# Altium integrated library Infineon_Power_MOSFET.IntLib: 1448 symbols (part 32 of 47)
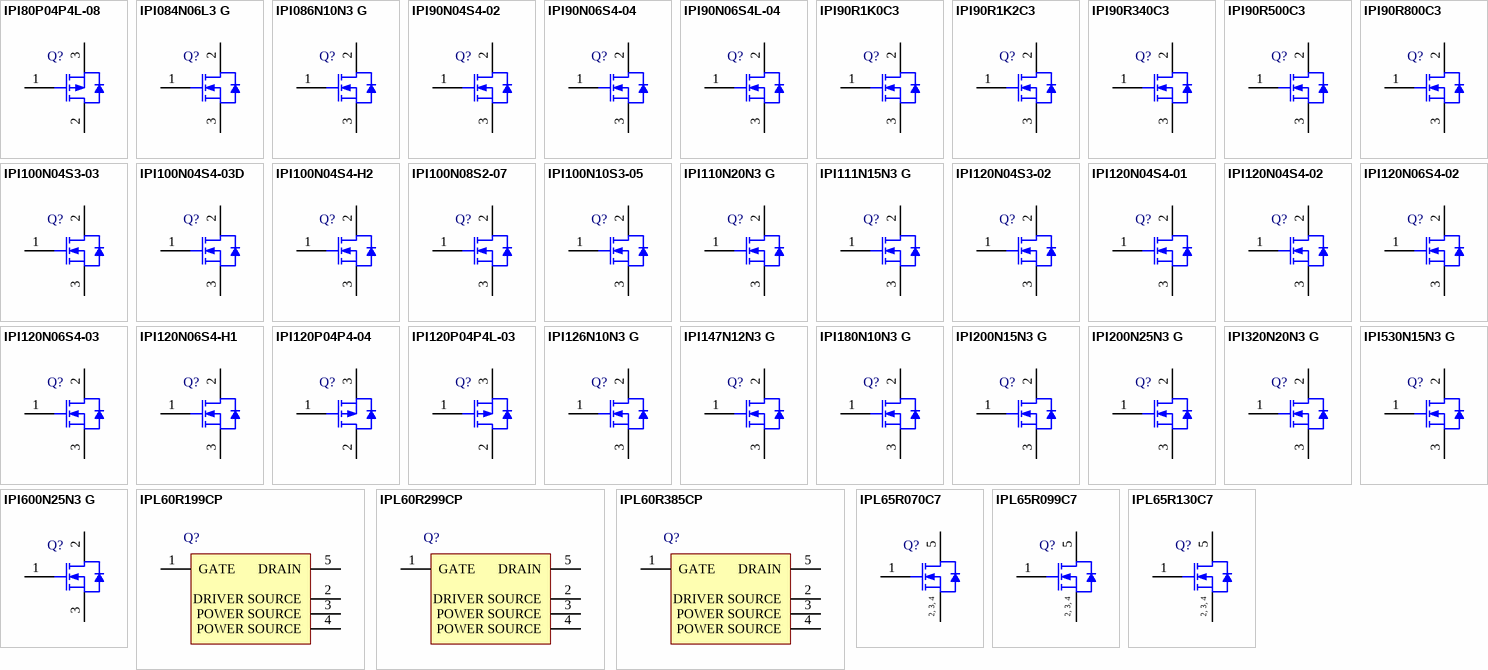
[diagram p68: symbols IPI80P04P4L-08 to IPL65R130C7]

## IPL60R385CP
designator Q?
N-Channel CoolMOS CP Power-Transistor, 600 V VDS, 9 A ID, -40 to 150 degC, PG-VSON-4, Reel, Green; Manufacturer: Infineon; PartNumber: IPL60R385CP; Green: TRUE; ID (max): 9 A; IDpuls (max): 27 A; Polarity: N; Ptot (max): 83 W; QG: 17 nC; RDS (on) (max): 385 mOhm; Rth: 1.5 K/W; RthJA (max): 45 K/W; VDS (max): 600 V; VGS(th) (max): 3.5 V; VGS(th) (min): 2.5 V; DatasheetVersion: Rev. 2.1; PackageVersion: Rev. 01, 04/2010; PackageReference: PG-VSON-4; PackageDescription: 4-Pin Plastic (Green) Small Outline Non-Leaded Package, 8 x 8 mm Body, 2 mm Pitch; Supplier 1: Mouser; Supplier Part Number 1: 726-IPL60R385CP; Supplier 2: Digi-Key; Supplier Part Number 2: IPL60R385CPTR-ND; Supplier 3: Digi-Key; Supplier Part Number 3: IPL60R385CPCT-ND; Supplier 4: Digi-Key; Supplier Part Number 4: IPL60R385CPDKR-ND; Halogen-free: TRUE; Packing: Reel; RthJC (max): 1.5 K/W; Technology: CoolMOS CP; Mounting Technology: Surface Mount; ComponentLink1Description: Manufacturer URL; ComponentLink1URL: http://www.infineon.com/; ComponentLink2Description: Datasheet; ComponentLink2URL: http://www.infineon.com/dgdl/IPL60R385CP_2_1.pdf?folderId=db3a3043163797a6011637d4bae7003b&fileId=db3a3043284aacd801285d06e55327e3; ComponentLink3Description: Package Specification; ComponentLink3URL: http://www.infineon.com/dgdl/IPL60R199CP_2_2.pdf?folderId=db3a3043163797a6011637d4bae7003b&fileId=db3a3043284aacd801284dca135b29ba
footprint INF-PG-VSON-4_A_V (VSON, 4-Leads, Body 8x8mm, Pitch 2mm, Thermal Pad 7.2x4.75mm)
pins: 1 GATE, 2 DRIVER SOURCE, 3 POWER SOURCE, 4 POWER SOURCE, 5 DRAIN

## IPL65R070C7
designator Q?
N-Channel CoolMOS(TM) C7 Power Transistor, 650 V VDS, -40 to 150 degC, PG-VSON-4, Reel, Green; Manufacturer: Infineon; PartNumber: IPL65R070C7; Green: TRUE; Polarity: FALSE; RDS (on) (max): 70 mOhm; VDS (max): 650 V; DatasheetVersion: Rev. 2.0; PackageVersion: Rev. 01, 04/2010; PackageReference: PG-VSON-4_A; PackageDescription: 4-Pin Plastic (Green) Small Outline Non-Leaded Package, 8 x 8 mm Body, 2 mm Pitch; Supplier 1: Mouser; Supplier Part Number 1: N/A; Halogen-free: TRUE; Packing: Reel; Mounting Technology: Surface Mount; ComponentLink1Description: Manufacturer URL; ComponentLink1URL: http://www.infineon.com/; ComponentLink2Description: Datasheet; ComponentLink2URL: http://www.infineon.com/dgdl/DS_IPL65R070C7_2_0.pdf?folderId=db3a3043156fd5730115c736bcc70ff2&fileId=5546d46145da30e80145f091901e6b3d; ComponentLink3Description: Package Specification; ComponentLink3URL: http://www.infineon.com/dgdl/2013_12_05_IDL12G65C5_Target_Datasheet.pdf?folderId=db3a30431d8a6b3c011dbeca72db281a&fileId=db3a304342e8be2c014305242a5d5c28
footprint INF-PG-VSON-4_A_V (VSON, 4-Leads, Body 8x8mm, Pitch 2mm, Thermal Pad 7.2x4.75mm)
pins: 1 G, 2 S, 3 S, 4 S, 5 D
text: 2, 3, 4

## IPL65R099C7
designator Q?
N-Channel CoolMOS(TM) C7 Power Transistor, 650 V VDS, -40 to 150 degC, PG-VSON-4, Reel, Green; Manufacturer: Infineon; PartNumber: IPL65R099C7; Green: TRUE; Polarity: FALSE; RDS (on) (max): 99 mOhm; VDS (max): 650 V; DatasheetVersion: Rev. 2.0; PackageVersion: Rev. 01, 04/2010; PackageReference: PG-VSON-4_A; PackageDescription: 4-Pin Plastic (Green) Small Outline Non-Leaded Package, 8 x 8 mm Body, 2 mm Pitch; Supplier 1: Mouser; Supplier Part Number 1: N/A; Halogen-free: TRUE; Packing: Reel; Mounting Technology: Surface Mount; ComponentLink1Description: Manufacturer URL; ComponentLink1URL: http://www.infineon.com/; ComponentLink2Description: Datasheet; ComponentLink2URL: http://www.infineon.com/dgdl/DS_IPL65R099C7_2_0.pdf?folderId=db3a3043163797a6011637d4bae7003b&fileId=5546d46145da30e80145f09defd56b63; ComponentLink3Description: Package Specification; ComponentLink3URL: http://www.infineon.com/dgdl/2013_12_05_IDL12G65C5_Target_Datasheet.pdf?folderId=db3a30431d8a6b3c011dbeca72db281a&fileId=db3a304342e8be2c014305242a5d5c28
footprint INF-PG-VSON-4_A_V (VSON, 4-Leads, Body 8x8mm, Pitch 2mm, Thermal Pad 7.2x4.75mm)
pins: 1 G, 2 S, 3 S, 4 S, 5 D
text: 2, 3, 4

## IPL65R130C7
designator Q?
N-Channel CoolMOS(TM) C7 Power Transistor, 650 V VDS, -55 to 150 degC, PG-VSON-4, Tube, Green; Manufacturer: Infineon; PartNumber: IPL65R130C7; Green: TRUE; Polarity: FALSE; RDS (on) (max): 130 mOhm; VDS (max): 650 V; DatasheetVersion: Rev. 2.0; PackageVersion: Rev. 01, 04/2010; PackageReference: PG-VSON-4_A; PackageDescription: 4-Pin Plastic (Green) Small Outline Non-Leaded Package, 8 x 8 mm Body, 2 mm Pitch; Supplier 1: Mouser; Supplier Part Number 1: 726-IPL65R130C7; Halogen-free: TRUE; Packing: Tube; Mounting Technology: Surface Mount; ComponentLink1Description: Manufacturer URL; ComponentLink1URL: http://www.infineon.com/; ComponentLink2Description: Datasheet; ComponentLink2URL: http://www.infineon.com/dgdl/DS_IPL65R130C7_2_0.pdf?folderId=db3a3043163797a6011637d4bae7003b&fileId=db3a30433e78ea82013e7977eef9029b; ComponentLink3Description: Package Specification; ComponentLink3URL: http://www.infineon.com/dgdl/2013_12_05_IDL12G65C5_Target_Datasheet.pdf?folderId=db3a30431d8a6b3c011dbeca72db281a&fileId=db3a304342e8be2c014305242a5d5c28
footprint INF-PG-VSON-4_A_V (VSON, 4-Leads, Body 8x8mm, Pitch 2mm, Thermal Pad 7.2x4.75mm)
pins: 1 G, 2 S, 3 S, 4 S, 5 D
text: 2, 3, 4

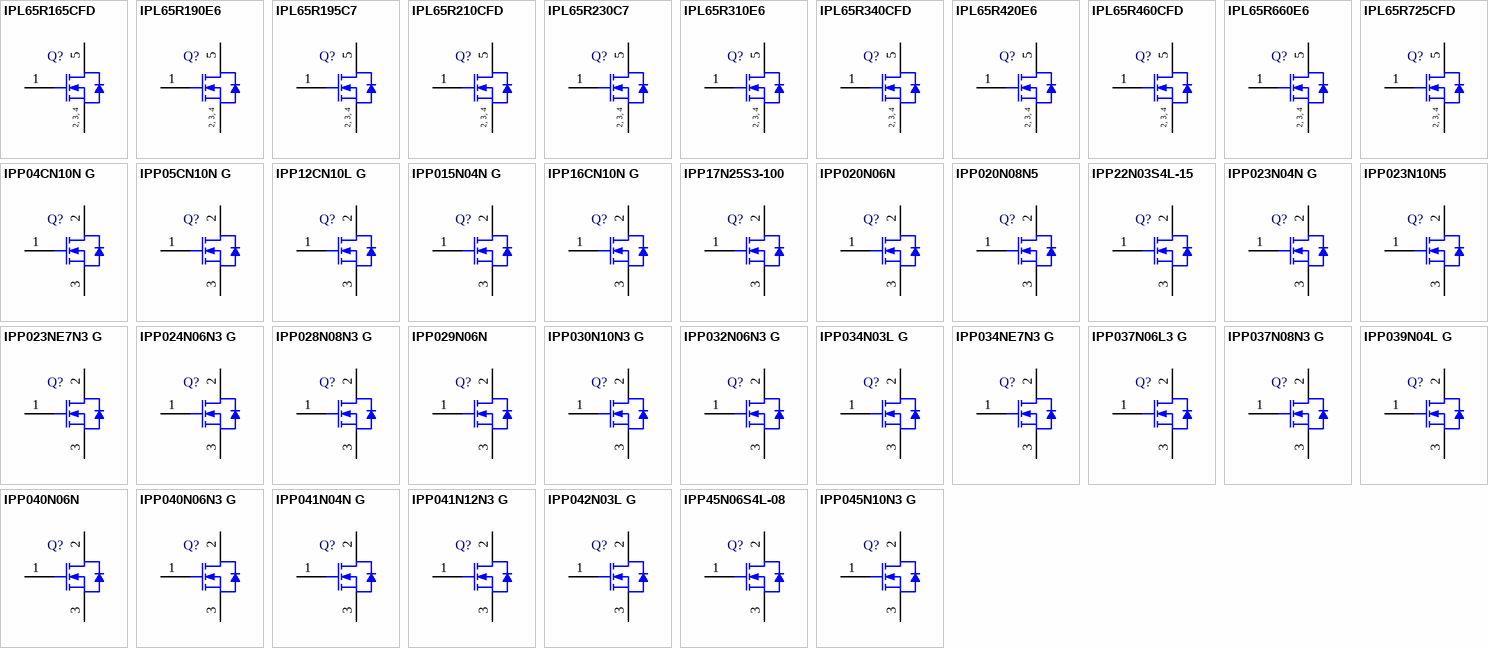
[diagram p25: symbols IPL65R165CFD to IPP045N10N3 G]

## IPL65R165CFD
designator Q?
N-Channel CoolMOS(TM) CFD2 Power Transistor, 650 V VDS, -40 to 150 degC, PG-VSON-4, Reel, Green; Manufacturer: Infineon; PartNumber: IPL65R165CFD; Green: TRUE; Polarity: FALSE; RDS (on) (max): 165 mOhm; VDS (max): 650 V; DatasheetVersion: Rev. 2.0; PackageVersion: Rev. 01, 04/2010; PackageReference: PG-VSON-4_A; PackageDescription: 4-Pin Plastic (Green) Small Outline Non-Leaded Package, 8 x 8 mm Body, 2 mm Pitch; Supplier 1: Mouser; Supplier Part Number 1: N/A; Halogen-free: TRUE; Packing: Reel; Mounting Technology: Surface Mount; ComponentLink1Description: Manufacturer URL; ComponentLink1URL: http://www.infineon.com/; ComponentLink2Description: Datasheet; ComponentLink2URL: http://www.infineon.com/dgdl/DS_IPL65R165CFD_2_0.pdf?folderId=db3a3043156fd5730115c736bcc70ff2&fileId=db3a304344d727a80144dee127e60baf; ComponentLink3Description: Package Specification; ComponentLink3URL: http://www.infineon.com/dgdl/2013_12_05_IDL12G65C5_Target_Datasheet.pdf?folderId=db3a30431d8a6b3c011dbeca72db281a&fileId=db3a304342e8be2c014305242a5d5c28
footprint INF-PG-VSON-4_A_V (VSON, 4-Leads, Body 8x8mm, Pitch 2mm, Thermal Pad 7.2x4.75mm)
pins: 1 G, 2 S, 3 S, 4 S, 5 D
text: 2, 3, 4

## IPL65R190E6
designator Q?
N-Channel CoolMOS(TM) E6 Power Transistor, 650 V VDS, -40 to 150 degC, PG-VSON-4, Reel, Green; Manufacturer: Infineon; PartNumber: IPL65R190E6; Green: TRUE; Polarity: FALSE; RDS (on) (max): 190 mOhm; VDS (max): 650 V; DatasheetVersion: Rev. 2.0; PackageVersion: Rev. 01, 04/2010; PackageReference: PG-VSON-4_A; PackageDescription: 4-Pin Plastic (Green) Small Outline Non-Leaded Package, 8 x 8 mm Body, 2 mm Pitch; Halogen-free: TRUE; Packing: Reel; Mounting Technology: Surface Mount; ComponentLink1Description: Manufacturer URL; ComponentLink1URL: http://www.infineon.com/; ComponentLink2Description: Datasheet; ComponentLink2URL: http://www.infineon.com/dgdl/DS_IPL65R190E6_2_0.pdf?folderId=db3a3043156fd5730115c736bcc70ff2&fileId=db3a304344d727a80144df7870ce0c0c; ComponentLink3Description: Package Specification; ComponentLink3URL: http://www.infineon.com/dgdl/2013_12_05_IDL12G65C5_Target_Datasheet.pdf?folderId=db3a30431d8a6b3c011dbeca72db281a&fileId=db3a304342e8be2c014305242a5d5c28
footprint INF-PG-VSON-4_A_V (VSON, 4-Leads, Body 8x8mm, Pitch 2mm, Thermal Pad 7.2x4.75mm)
pins: 1 G, 2 S, 3 S, 4 S, 5 D
text: 2, 3, 4

## IPL65R195C7
designator Q?
N-Channel CoolMOS(TM) C7 Power Transistor, 650 V VDS, -40 to 150 degC, PG-VSON-4, Reel, Green; Manufacturer: Infineon; PartNumber: IPL65R195C7; Green: TRUE; Polarity: FALSE; RDS (on) (max): 195 mOhm; VDS (max): 650 V; DatasheetVersion: Rev. 2.0; PackageVersion: Rev. 01, 04/2010; PackageReference: PG-VSON-4_A; PackageDescription: 4-Pin Plastic (Green) Small Outline Non-Leaded Package, 8 x 8 mm Body, 2 mm Pitch; Supplier 1: Mouser; Supplier Part Number 1: N/A; Halogen-free: TRUE; Packing: Reel; Mounting Technology: Surface Mount; ComponentLink1Description: Manufacturer URL; ComponentLink1URL: http://www.infineon.com/; ComponentLink2Description: Datasheet; ComponentLink2URL: http://www.infineon.com/dgdl/DS_IPL65R195C7_2_0.pdf?folderId=db3a3043156fd5730115c736bcc70ff2&fileId=5546d46145da30e80145f07420a26b18; ComponentLink3Description: Package Specification; ComponentLink3URL: http://www.infineon.com/dgdl/2013_12_05_IDL12G65C5_Target_Datasheet.pdf?folderId=db3a30431d8a6b3c011dbeca72db281a&fileId=db3a304342e8be2c014305242a5d5c28
footprint INF-PG-VSON-4_A_V (VSON, 4-Leads, Body 8x8mm, Pitch 2mm, Thermal Pad 7.2x4.75mm)
pins: 1 G, 2 S, 3 S, 4 S, 5 D
text: 2, 3, 4

## IPL65R210CFD
designator Q?
N-Channel CoolMOS(TM) CFD2 Power Transistor, 650 V VDS, -40 to 150 degC, PG-VSON-4, Reel, Green; Manufacturer: Infineon; PartNumber: IPL65R210CFD; Green: TRUE; Polarity: FALSE; RDS (on) (max): 210 mOhm; VDS (max): 650 V; DatasheetVersion: Rev. 2.0; PackageVersion: Rev. 01, 04/2010; PackageReference: PG-VSON-4_A; PackageDescription: 4-Pin Plastic (Green) Small Outline Non-Leaded Package, 8 x 8 mm Body, 2 mm Pitch; Supplier 1: Mouser; Supplier Part Number 1: N/A; Halogen-free: TRUE; Packing: Reel; Mounting Technology: Surface Mount; ComponentLink1Description: Manufacturer URL; ComponentLink1URL: http://www.infineon.com/; ComponentLink2Description: Datasheet; ComponentLink2URL: http://www.infineon.com/dgdl/DS_IPL65R210CFD_2_0.pdf?folderId=db3a3043156fd5730115c736bcc70ff2&fileId=db3a304344d727a80144e392799a11a4; ComponentLink3Description: Package Specification; ComponentLink3URL: http://www.infineon.com/dgdl/2013_12_05_IDL12G65C5_Target_Datasheet.pdf?folderId=db3a30431d8a6b3c011dbeca72db281a&fileId=db3a304342e8be2c014305242a5d5c28
footprint INF-PG-VSON-4_A_V (VSON, 4-Leads, Body 8x8mm, Pitch 2mm, Thermal Pad 7.2x4.75mm)
pins: 1 G, 2 S, 3 S, 4 S, 5 D
text: 2, 3, 4

## IPL65R230C7
designator Q?
N-Channel CoolMOS(TM) C7 Power Transistor, 650 V VDS, -40 to 150 degC, PG-VSON-4, Reel, Green; Manufacturer: Infineon; PartNumber: IPL65R230C7; Green: TRUE; Polarity: FALSE; RDS (on) (max): 230 mOhm; VDS (max): 650 V; DatasheetVersion: Rev. 2.0; PackageVersion: Rev. 01, 04/2010; PackageReference: PG-VSON-4_A; PackageDescription: 4-Pin Plastic (Green) Small Outline Non-Leaded Package, 8 x 8 mm Body, 2 mm Pitch; Supplier 1: Mouser; Supplier Part Number 1: 726-IPL65R230C7; Halogen-free: TRUE; Packing: Reel; Mounting Technology: Surface Mount; ComponentLink1Description: Manufacturer URL; ComponentLink1URL: http://www.infineon.com/; ComponentLink2Description: Datasheet; ComponentLink2URL: http://www.infineon.com/dgdl/DS_IPL65R230C7_2_0.pdf?folderId=db3a3043163797a6011637d4bae7003b&fileId=db3a30433e78ea82013e798fa6d80332; ComponentLink3Description: Package Specification; ComponentLink3URL: http://www.infineon.com/dgdl/2013_12_05_IDL12G65C5_Target_Datasheet.pdf?folderId=db3a30431d8a6b3c011dbeca72db281a&fileId=db3a304342e8be2c014305242a5d5c28
footprint INF-PG-VSON-4_A_V (VSON, 4-Leads, Body 8x8mm, Pitch 2mm, Thermal Pad 7.2x4.75mm)
pins: 1 G, 2 S, 3 S, 4 S, 5 D
text: 2, 3, 4

## IPL65R310E6
designator Q?
N-Channel CoolMOS(TM) E6 Power Transistor, 650 V VDS, -40 to 150 degC, PG-VSON-4, Reel, Green; Manufacturer: Infineon; PartNumber: IPL65R310E6; Green: TRUE; Polarity: FALSE; RDS (on) (max): 310 mOhm; VDS (max): 650 V; DatasheetVersion: Rev. 2.1; PackageVersion: Rev. 01, 04/2010; PackageReference: PG-VSON-4_A; PackageDescription: 4-Pin Plastic (Green) Small Outline Non-Leaded Package, 8 x 8 mm Body, 2 mm Pitch; Supplier 1: Mouser; Supplier Part Number 1: N/A; Halogen-free: TRUE; Packing: Reel; Mounting Technology: Surface Mount; ComponentLink1Description: Manufacturer URL; ComponentLink1URL: http://www.infineon.com/; ComponentLink2Description: Datasheet; ComponentLink2URL: http://www.infineon.com/dgdl/DS_IPL65R310E6_Final_DS.pdf?folderId=db3a3043156fd5730115c736bcc70ff2&fileId=db3a304344ae06150144b16ec3b200bc; ComponentLink3Description: Package Specification; ComponentLink3URL: http://www.infineon.com/dgdl/2013_12_05_IDL12G65C5_Target_Datasheet.pdf?folderId=db3a30431d8a6b3c011dbeca72db281a&fileId=db3a304342e8be2c014305242a5d5c28
footprint INF-PG-VSON-4_A_V (VSON, 4-Leads, Body 8x8mm, Pitch 2mm, Thermal Pad 7.2x4.75mm)
pins: 1 G, 2 S, 3 S, 4 S, 5 D
text: 2, 3, 4

## IPL65R340CFD
designator Q?
N-Channel CoolMOS(TM) CFD2 Power Transistor, 650 V VDS, -40 to 150 degC, PG-VSON-4, Reel, Green; Manufacturer: Infineon; PartNumber: IPL65R340CFD; Green: TRUE; Polarity: FALSE; RDS (on) (max): 340 mOhm; VDS (max): 650 V; DatasheetVersion: Rev. 2.0; PackageVersion: Rev. 01, 04/2010; PackageReference: PG-VSON-4_A; PackageDescription: 4-Pin Plastic (Green) Small Outline Non-Leaded Package, 8 x 8 mm Body, 2 mm Pitch; Supplier 1: Mouser; Supplier Part Number 1: N/A; Halogen-free: TRUE; Packing: Reel; Mounting Technology: Surface Mount; ComponentLink1Description: Manufacturer URL; ComponentLink1URL: http://www.infineon.com/; ComponentLink2Description: Datasheet; ComponentLink2URL: http://www.infineon.com/dgdl/DS_IPL65R340CFD_2_0.pdf?folderId=db3a3043156fd5730115c736bcc70ff2&fileId=db3a30433f2e70c5013f41d258c14e3d; ComponentLink3Description: Package Specification; ComponentLink3URL: http://www.infineon.com/dgdl/2013_12_05_IDL12G65C5_Target_Datasheet.pdf?folderId=db3a30431d8a6b3c011dbeca72db281a&fileId=db3a304342e8be2c014305242a5d5c28
footprint INF-PG-VSON-4_A_V (VSON, 4-Leads, Body 8x8mm, Pitch 2mm, Thermal Pad 7.2x4.75mm)
pins: 1 G, 2 S, 3 S, 4 S, 5 D
text: 2, 3, 4

## IPL65R420E6
designator Q?
N-Channel CoolMOS(TM) E6 Power Transistor, 650 V VDS, -40 to 150 degC, PG-VSON-4, Reel, Green; Manufacturer: Infineon; PartNumber: IPL65R420E6; Green: TRUE; Polarity: FALSE; RDS (on) (max): 420 mOhm; VDS (max): 650 V; DatasheetVersion: Rev. 2.1; PackageVersion: Rev. 01, 04/2010; PackageReference: PG-VSON-4_A; PackageDescription: 4-Pin Plastic (Green) Small Outline Non-Leaded Package, 8 x 8 mm Body, 2 mm Pitch; Supplier 1: Mouser; Supplier Part Number 1: N/A; Halogen-free: TRUE; Packing: Reel; Mounting Technology: Surface Mount; ComponentLink1Description: Manufacturer URL; ComponentLink1URL: http://www.infineon.com/; ComponentLink2Description: Datasheet; ComponentLink2URL: http://www.infineon.com/dgdl/DS_IPL65R420E6_Final_DS.pdf?folderId=db3a3043156fd5730115c736bcc70ff2&fileId=db3a304344ae06150144b19d39c60132; ComponentLink3Description: Package Specification; ComponentLink3URL: http://www.infineon.com/dgdl/2013_12_05_IDL12G65C5_Target_Datasheet.pdf?folderId=db3a30431d8a6b3c011dbeca72db281a&fileId=db3a304342e8be2c014305242a5d5c28
footprint INF-PG-VSON-4_A_V (VSON, 4-Leads, Body 8x8mm, Pitch 2mm, Thermal Pad 7.2x4.75mm)
pins: 1 G, 2 S, 3 S, 4 S, 5 D
text: 2, 3, 4

## IPL65R460CFD
designator Q?
N-Channel CoolMOS(TM) CFD2 Power Transistor, 650 V VDS, -40 to 150 degC, PG-VSON-4, Reel, Green; Manufacturer: Infineon; PartNumber: IPL65R460CFD; Green: TRUE; Polarity: FALSE; RDS (on) (max): 460 mOhm; VDS (max): 650 V; DatasheetVersion: Rev. 2.0; PackageVersion: Rev. 01, 04/2010; PackageReference: PG-VSON-4_A; PackageDescription: 4-Pin Plastic (Green) Small Outline Non-Leaded Package, 8 x 8 mm Body, 2 mm Pitch; Supplier 1: Mouser; Supplier Part Number 1: N/A; Halogen-free: TRUE; Packing: Reel; Mounting Technology: Surface Mount; ComponentLink1Description: Manufacturer URL; ComponentLink1URL: http://www.infineon.com/; ComponentLink2Description: Datasheet; ComponentLink2URL: http://www.infineon.com/dgdl/DS_IPL65R460CFD_2_0.pdf?folderId=db3a3043156fd5730115c736bcc70ff2&fileId=db3a30433f2e70c5013f41ed465d4e69; ComponentLink3Description: Package Specification; ComponentLink3URL: http://www.infineon.com/dgdl/2013_12_05_IDL12G65C5_Target_Datasheet.pdf?folderId=db3a30431d8a6b3c011dbeca72db281a&fileId=db3a304342e8be2c014305242a5d5c28
footprint INF-PG-VSON-4_A_V (VSON, 4-Leads, Body 8x8mm, Pitch 2mm, Thermal Pad 7.2x4.75mm)
pins: 1 G, 2 S, 3 S, 4 S, 5 D
text: 2, 3, 4

## IPL65R660E6
designator Q?
N-Channel CoolMOS(TM) E6 Power Transistor, 650 V VDS, -40 to 150 degC, PG-VSON-4, Reel, Green; Manufacturer: Infineon; PartNumber: IPL65R660E6; Green: TRUE; Polarity: FALSE; RDS (on) (max): 660 mOhm; VDS (max): 650 V; DatasheetVersion: Rev. 2.1; PackageVersion: Rev. 01, 04/2010; PackageReference: PG-VSON-4_A; PackageDescription: 4-Pin Plastic (Green) Small Outline Non-Leaded Package, 8 x 8 mm Body, 2 mm Pitch; Supplier 1: Mouser; Supplier Part Number 1: N/A; Halogen-free: TRUE; Packing: Reel; Mounting Technology: Surface Mount; ComponentLink1Description: Manufacturer URL; ComponentLink1URL: http://www.infineon.com/; ComponentLink2Description: Datasheet; ComponentLink2URL: http://www.infineon.com/dgdl/DS_IPL65R660E6_Final_DS.pdf?folderId=db3a3043156fd5730115c736bcc70ff2&fileId=db3a304344ae06150144b1d4c6280166; ComponentLink3Description: Package Specification; ComponentLink3URL: http://www.infineon.com/dgdl/2013_12_05_IDL12G65C5_Target_Datasheet.pdf?folderId=db3a30431d8a6b3c011dbeca72db281a&fileId=db3a304342e8be2c014305242a5d5c28
footprint INF-PG-VSON-4_A_V (VSON, 4-Leads, Body 8x8mm, Pitch 2mm, Thermal Pad 7.2x4.75mm)
pins: 1 G, 2 S, 3 S, 4 S, 5 D
text: 2, 3, 4

## IPL65R725CFD
designator Q?
N-Channel CoolMOS(TM) CFD2 Power Transistor, 650 V VDS, -40 to 150 degC, PG-VSON-4, Reel, Green; Manufacturer: Infineon; PartNumber: IPL65R725CFD; Green: TRUE; Polarity: FALSE; RDS (on) (max): 725 mOhm; VDS (max): 650 V; DatasheetVersion: Rev. 2.0; PackageVersion: Rev. 01, 04/2010; PackageReference: PG-VSON-4_A; PackageDescription: 4-Pin Plastic (Green) Small Outline Non-Leaded Package, 8 x 8 mm Body, 2 mm Pitch; Supplier 1: Mouser; Supplier Part Number 1: N/A; Halogen-free: TRUE; Packing: Reel; Mounting Technology: Surface Mount; ComponentLink1Description: Manufacturer URL; ComponentLink1URL: http://www.infineon.com/; ComponentLink2Description: Datasheet; ComponentLink2URL: http://www.infineon.com/dgdl/DS_IPL65R725CFD_2_0.pdf?folderId=db3a3043156fd5730115c736bcc70ff2&fileId=db3a30433f2e70c5013f4253f8dc4ec9; ComponentLink3Description: Package Specification; ComponentLink3URL: http://www.infineon.com/dgdl/2013_12_05_IDL12G65C5_Target_Datasheet.pdf?folderId=db3a30431d8a6b3c011dbeca72db281a&fileId=db3a304342e8be2c014305242a5d5c28
footprint INF-PG-VSON-4_A_V (VSON, 4-Leads, Body 8x8mm, Pitch 2mm, Thermal Pad 7.2x4.75mm)
pins: 1 G, 2 S, 3 S, 4 S, 5 D
text: 2, 3, 4

## IPP04CN10N G
designator Q?
N-Channel OptiMOS 2 Power-Transistor, 100 V VDS, 100 A ID, -55 to 175 degC, PG-TO220-3-1, Tube, Green; Manufacturer: Infineon; PartNumber: IPP04CN10N G; Green: TRUE; ID (max): 100 A; IDpuls (max): 400 A; Polarity: N; Ptot (max): 300 W; QG: 158 nC; RDS (on) (max): 3.9 mOhm; Rth: 0.5 K/W; RthJA (max): 62 K/W; VDS (max): 100 V; VGS(th) (max): 4 V; VGS(th) (min): 2 V; DatasheetVersion: Rev. 1.4; PackageVersion: Rev. 05, 08/2007; PackageReference: PG-TO220-3-1; PackageDescription: 3-Pin Plastic (Green) Transistor Single Outline Package, 10.03 x 8.98 mm Body, 2.54 mm Pitch; Supplier 1: Newark; Supplier Part Number 1: 60R2733; Supplier 2: Farnell; Supplier Part Number 2: 1775622; Halogen-free: TRUE; Packing: Tube; RthJC (max): 0.5 K/W; Mounting Technology: Through Hole; ComponentLink1Description: Manufacturer URL; ComponentLink1URL: http://www.infineon.com/; ComponentLink2Description: Datasheet; ComponentLink2URL: http://www.infineon.com/dgdl/IPP04CN10N_Rev1.4.pdf?folderId=db3a304313b8b5a60113cee8763b02d7&fileId=db3a30432313ff5e012393a80d1d03d8; ComponentLink3Description: Package Specification; ComponentLink3URL: http://www.infineon.com/dgdl/IPP028N08N3_Rev1%5B1%5D.0.pdf?folderId=db3a304313b8b5a60113cee8763b02d7&fileId=db3a30432313ff5e0123a3c08e7326b5
footprint INF-PG-TO220-3-1_A_V (FM, 3-Leads, Body 10.03x8.98mm, Pitch 2.54mm)
pins: 1 GATE, 2 DRAIN, 3 SOURCE

## IPP05CN10N G
designator Q?
N-Channel OptiMOS 2 Power-Transistor, 100 V VDS, 100 A ID, -55 to 175 degC, PG-TO220-3-1, Tube, Green; Manufacturer: Infineon; PartNumber: IPP05CN10N G; Green: TRUE; ID (max): 100 A; IDpuls (max): 400 A; Polarity: N; Ptot (max): 300 W; QG: 136 nC; RDS (on) (max): 5.4 mOhm; Rth: 0.5 K/W; RthJA (max): 62 K/W; VDS (max): 100 V; VGS(th) (max): 4 V; VGS(th) (min): 2 V; DatasheetVersion: Rev. 1.2; PackageVersion: Rev. 05, 08/2007; PackageReference: PG-TO220-3-1; PackageDescription: 3-Pin Plastic (Green) Transistor Single Outline Package, 10.03 x 8.98 mm Body, 2.54 mm Pitch; Supplier 1: Digi-Key; Supplier Part Number 1: IPP05CN10NGIN-ND; Halogen-free: TRUE; Packing: Tube; RthJC (max): 0.5 K/W; Mounting Technology: Through Hole; ComponentLink1Description: Manufacturer URL; ComponentLink1URL: http://www.infineon.com/; ComponentLink2Description: Datasheet; ComponentLink2URL: http://www.infineon.com/dgdl/IPP05CN10N_Rev1.2.pdf?folderId=db3a304313b8b5a60113cee8763b02d7&fileId=db3a30432313ff5e012393ad8dec03e7; ComponentLink3Description: Package Specification; ComponentLink3URL: http://www.infineon.com/dgdl/IPP028N08N3_Rev1%5B1%5D.0.pdf?folderId=db3a304313b8b5a60113cee8763b02d7&fileId=db3a30432313ff5e0123a3c08e7326b5
footprint INF-PG-TO220-3-1_A_V (FM, 3-Leads, Body 10.03x8.98mm, Pitch 2.54mm)
pins: 1 GATE, 2 DRAIN, 3 SOURCE

## IPP12CN10L G
designator Q?
N-Channel OptiMOS 2 Power-Transistor, 100 V VDS, 69 A ID, -55 to 175 degC, PG-TO220-3-1, Tube, Green; Manufacturer: Infineon; PartNumber: IPP12CN10L G; Green: TRUE; ID (max): 69 A; IDpuls (max): 276 A; Polarity: N; Ptot (max): 125 W; QG: 58 nC; RDS (on) (max): 12 mOhm; RDS (on) (max) (@4.5V): 15.8 mOhm; Rth: 1.2 K/W; RthJA (max): 62 K/W; RthJC (max): 1.2 K/W; VDS (max): 100 V; VGS(th) (max): 2.4 V; VGS(th) (min): 1.2 V; DatasheetVersion: Rev. 1.03; PackageVersion: Rev. 05, 08/2007; PackageReference: PG-TO220-3-1; PackageDescription: 3-Pin Plastic (Green) Transistor Single Outline Package, 10.03 x 8.98 mm Body, 2.54 mm Pitch; Supplier 1: Mouser; Supplier Part Number 1: 726-IPP12CN10LG; Supplier 2: Digi-Key; Supplier Part Number 2: IPP12CN10L G-ND; Halogen-free: TRUE; Packing: Tube; Mounting Technology: Through Hole; ComponentLink1Description: Manufacturer URL; ComponentLink1URL: http://www.infineon.com/; ComponentLink2Description: Datasheet; ComponentLink2URL: http://www.infineon.com/dgdl/IPP12CN10L_Rev13.pdf?folderId=db3a304313b8b5a60113cee8763b02d7&fileId=db3a30431b0626df011b2615b04b6fd1; ComponentLink3Description: Package Specification; ComponentLink3URL: http://www.infineon.com/dgdl/IPP028N08N3_Rev1%5B1%5D.0.pdf?folderId=db3a304313b8b5a60113cee8763b02d7&fileId=db3a30432313ff5e0123a3c08e7326b5
footprint INF-PG-TO220-3-1_A_V (FM, 3-Leads, Body 10.03x8.98mm, Pitch 2.54mm)
pins: 1 GATE, 2 DRAIN, 3 SOURCE

## IPP015N04N G
designator Q?
N-Channel OptiMOS 3 Power-Transistor, 40 V VDS, 120 A ID, -55 to 175 degC, PG-TO220-3-1, Tube, Green; Manufacturer: Infineon; PartNumber: IPP015N04N G; Green: TRUE; ID (max): 120 A; IDpuls (max): 400 A; Polarity: N; Ptot (max): 250 W; QG: 188 nC; RDS (on) (max): 1.5 mOhm; Rth: 0.6 K/W; RthJA (max): 62 K/W; VDS (max): 40 V; VGS(th) (max): 4 V; VGS(th) (min): 2 V; DatasheetVersion: Rev. 2.2; PackageVersion: Rev. 05, 08/2007; PackageReference: PG-TO220-3-1; PackageDescription: 3-Pin Plastic (Green) Transistor Single Outline Package, 10.03 x 8.98 mm Body, 2.54 mm Pitch; Supplier 1: Mouser; Supplier Part Number 1: 726-IPP015N04NG; Supplier 2: Newark; Supplier Part Number 2: 60R2726; Supplier 3: Farnell; Supplier Part Number 3: 1775611; Supplier 4: Digi-Key; Supplier Part Number 4: IPP015N04N G-ND; Halogen-free: TRUE; Packing: Tube; RthJC (max): 0.6 K/W; Mounting Technology: Through Hole; ComponentLink1Description: Manufacturer URL; ComponentLink1URL: http://www.infineon.com/; ComponentLink2Description: Datasheet; ComponentLink2URL: http://www.infineon.com/dgdl/IPB015N04N_rev2.2.pdf?folderId=db3a304313b8b5a60113cee8763b02d7&fileId=db3a30432313ff5e01239efadeca7112; ComponentLink3Description: Package Specification; ComponentLink3URL: http://www.infineon.com/dgdl/IPP028N08N3_Rev1%5B1%5D.0.pdf?folderId=db3a304313b8b5a60113cee8763b02d7&fileId=db3a30432313ff5e0123a3c08e7326b5
footprint INF-PG-TO220-3-1_A_V (FM, 3-Leads, Body 10.03x8.98mm, Pitch 2.54mm)
pins: 1 GATE, 2 DRAIN, 3 SOURCE

## IPP16CN10N G
designator Q?
N-Channel OptiMOS 2 Power-Transistor, 100 V VDS, 53 A ID, -55 to 175 degC, PG-TO220-3-1, Tube, Green; Manufacturer: Infineon; PartNumber: IPP16CN10N G; Green: TRUE; ID (max): 53 A; IDpuls (max): 212 A; Polarity: N; Ptot (max): 100 W; QG: 36 nC; RDS (on) (max): 16.5 mOhm; Rth: 1.5 K/W; RthJA (max): 62 K/W; VDS (max): 100 V; VGS(th) (max): 4 V; VGS(th) (min): 2 V; DatasheetVersion: Rev. 1.06; PackageVersion: Rev. 05, 08/2007; PackageReference: PG-TO220-3-1; PackageDescription: 3-Pin Plastic (Green) Transistor Single Outline Package, 10.03 x 8.98 mm Body, 2.54 mm Pitch; Supplier 1: Digi-Key; Supplier Part Number 1: IPP16CN10NGIN-ND; Halogen-free: TRUE; Packing: Tube; RthJC (max): 1.5 K/W; Mounting Technology: Through Hole; ComponentLink1Description: Manufacturer URL; ComponentLink1URL: http://www.infineon.com/; ComponentLink2Description: Datasheet; ComponentLink2URL: http://www.infineon.com/dgdl/IPP16CN10N_Rev16.pdf?folderId=db3a304313b8b5a60113cee8763b02d7&fileId=db3a30432313ff5e012393cd8f170432; ComponentLink3Description: Package Specification; ComponentLink3URL: http://www.infineon.com/dgdl/IPP028N08N3_Rev1%5B1%5D.0.pdf?folderId=db3a304313b8b5a60113cee8763b02d7&fileId=db3a30432313ff5e0123a3c08e7326b5
footprint INF-PG-TO220-3-1_A_V (FM, 3-Leads, Body 10.03x8.98mm, Pitch 2.54mm)
pins: 1 GATE, 2 DRAIN, 3 SOURCE

## IPP17N25S3-100
designator Q?
OptiMOS-T Power-Transistor, 250 V VDS, 17 A ID, PG-TO220-3-1, Green; Manufacturer: Infineon; PartNumber: IPP17N25S3-100; Green: TRUE; ID (max): 17 A; IDpuls (max): 68 A; Ptot (max): 107 W; QG: 14 nC; RDS (on) (max) (@10V): 100 mOhm; RthJC (max): 1.4 K/W; VDS (max): 250 V; VGS(th) (max): 4 V; VGS(th) (min): 2 V; DatasheetVersion: Rev. 1.0; PackageVersion: Jul-12; PackageReference: PG-TO220-3-1; PackageDescription: 3-Pin Plastic (Green) Transistor Single Outline Package, 10 x 9.25 mm Body, 2.54 mm Pitch; Supplier 1: Mouser; Supplier Part Number 1: N/A; Halogen-free: FALSE; Technology: OptiMOS-T; Mounting Technology: Through Hole; ComponentLink1Description: Manufacturer URL; ComponentLink1URL: http://www.infineon.com/; ComponentLink2Description: Datasheet; ComponentLink2URL: http://www.infineon.com/dgdl/IPP_B17N25S3-100_DS_10.pdf?folderId=db3a30433b92f0e8013b9377b6270147&fileId=db3a30433b92f0e8013b937c398a014b&location=en.Products.Automotive_ICs.Automotive_MOSFETs.Single__N-Channel_250V_MOSFETs.DATASHEET.IPP_B17N25S3-100_DS_10.pdf; ComponentLink3Description: Package Specification; ComponentLink3URL: http://www.infineon.com/dgdl/BTS117_DS_14.pdf?folderId=db3a30431400ef68011421b54e2e0564&fileId=db3a30433a747525013abff8302d549c&location=en.Products.Automotive_ICs.Smart_High-_and_Low-Side_Switches.HITFET___TEMPFET__-_Smart_Low-Side_Switches.DATASHEET.BTS117_DS_14.pdf
footprint INF-PG-TO220-3-1 (FM, 3-Leads, Body 10x4.4mm, Pitch 2.54mm)
pins: 1 GATE, 2 DRAIN, 3 SOURCE

## IPP020N06N
designator Q?
N-Channel OptiMOS Power-Transistor, 60 V VDS, 120 A ID, -55 to 175 degC, PG-TO220-3-1, Tube, Green; Manufacturer: Infineon; PartNumber: IPP020N06N; Green: TRUE; ID (max): 120 A; IDpuls (max): 480 A; Polarity: N; Ptot (max): 214 W; QG: 106 nC; RDS (on) (max): 2 mOhm; Rth: 0.7 K/W; RthJA (max): 62 K/W; VDS (max): 60 V; VGS(th) (max): 3.3 V; VGS(th) (min): 2.1 V; DatasheetVersion: Rev. 2.3; PackageVersion: Rev. 05, 08/2007; PackageReference: PG-TO220-3-1; PackageDescription: 3-Pin Plastic (Green) Transistor Single Outline Package, 10.03 x 8.98 mm Body, 2.54 mm Pitch; Supplier 1: Digi-Key; Supplier Part Number 1: IPP020N06N-ND; Halogen-free: TRUE; Packing: Tube; RthJC (max): 0.7 K/W; Mounting Technology: Through Hole; ComponentLink1Description: Manufacturer URL; ComponentLink1URL: http://www.infineon.com/; ComponentLink2Description: Datasheet; ComponentLink2URL: http://www.infineon.com/dgdl/IPP020N06N_Rev2.3.pdf?folderId=db3a30431ddc9372011ebafa04517f8b&fileId=db3a3043345a30bc013465ce627962f5; ComponentLink3Description: Package Specification; ComponentLink3URL: http://www.infineon.com/dgdl/IPP028N08N3_Rev1%5B1%5D.0.pdf?folderId=db3a304313b8b5a60113cee8763b02d7&fileId=db3a30432313ff5e0123a3c08e7326b5
footprint INF-PG-TO220-3-1_A_V (FM, 3-Leads, Body 10.03x8.98mm, Pitch 2.54mm)
pins: 1 GATE, 2 DRAIN, 3 SOURCE

## IPP020N08N5
designator Q?
N-Channel OptiMOS(TM) 5 Power-Transistor, 80 V VDS, 120 A ID, PG-TO220-3, Tube, Green; Manufacturer: Infineon; PartNumber: IPP020N08N5; Green: TRUE; ID (max): 120 A; IDpuls (max): 480 A; Polarity: N; Ptot (max): 375 W; QG: 178 nC; RDS (on) (max): 2 mOhm; RthJA (max): 62 K/W; RthJC (max): 0.4 K/W; VDS (max): 80 V; VGS(th) (max): 3.8 V; VGS(th) (min): 2.2 V; DatasheetVersion: Rev. 2.1; PackageVersion: Rev. 05, 08/2007; PackageReference: PG-TO220-3-1_A; PackageDescription: 3-Pin Plastic (Green) Transistor Single Outline Package, 10.03 x 8.98 mm Body, 2.54 mm Pitch; Halogen-free: TRUE; Mounting: THT; Packing: Tube; Technology: OptiMOS(TM); Mounting Technology: Through Hole; ComponentLink1Description: Manufacturer URL; ComponentLink1URL: http://www.infineon.com/; ComponentLink2Description: Datasheet; ComponentLink2URL: http://www.infineon.com/dgdl/IPP020N08N5_2_1.pdf?folderId=db3a304313b8b5a60113cee7c66a02d6&fileId=5546d461454603990145ccd88c826204; ComponentLink3Description: Package Specification; ComponentLink3URL: http://www.infineon.com/dgdl/IKP30N65H5_2_1.pdf?folderId=db3a3043156fd5730115f56849b61941&fileId=5546d461464245d30146a51a2ca36d28
footprint INF-PG-TO220-3-1_A_V (FM, 3-Leads, Body 10.03x8.98mm, Pitch 2.54mm)
pins: 1 GATE, 2 DRAIN, 3 SOURCE

## IPP22N03S4L-15
designator Q?
OptiMOS-T2 Power-Transistor, 30 V VDS, 22 A ID, PG-TO220-3-1, Tube, Green; Manufacturer: Infineon; PartNumber: IPP22N03S4L-15; Green: TRUE; ID (max): 22 A; IDpuls (max): 88 A; Ptot (max): 31 W; QG: 11 nC; RDS (on) (max) (@10V): 14.9 mOhm; RDS (on) (max) (@4.5V): 19.8 mOhm; RthJC (max): 4.9 K/W; VDS (max): 30 V; VGS(th) (max): 2.2 V; VGS(th) (min): 1 V; DatasheetVersion: Rev. 2.0; PackageVersion: Jul-12; PackageReference: PG-TO220-3-1; PackageDescription: 3-Pin Plastic (Green) Transistor Single Outline Package, 10 x 9.25 mm Body, 2.54 mm Pitch; Supplier 1: Mouser; Supplier Part Number 1: 726-IPP22N03S4L-15; Supplier 2: Digi-Key; Supplier Part Number 2: IPP22N03S4L-15-ND; Halogen-free: TRUE; Packing: Tube; Technology: OptiMOS-T2; Mounting Technology: Through Hole; ComponentLink1Description: Manufacturer URL; ComponentLink1URL: http://www.infineon.com/; ComponentLink2Description: Datasheet; ComponentLink2URL: http://www.infineon.com/dgdl/IPP_B_I22N03S4L-15_DS_2_0.pdf?folderId=db3a304412b407950112b426f7da3b27&fileId=db3a304412b407950112b426fb903b3b&location=en.Products.Automotive_ICs.Automotive_MOSFETs.Single__N-Channel_30V_MOSFETs.DATASHEET.IPP_B_I22N03S4L-15_DS_2_0.pdf; ComponentLink3Description: Package Specification; ComponentLink3URL: http://www.infineon.com/dgdl/BTS117_DS_14.pdf?folderId=db3a30431400ef68011421b54e2e0564&fileId=db3a30433a747525013abff8302d549c&location=en.Products.Automotive_ICs.Smart_High-_and_Low-Side_Switches.HITFET___TEMPFET__-_Smart_Low-Side_Switches.DATASHEET.BTS117_DS_14.pdf
footprint INF-PG-TO220-3-1 (FM, 3-Leads, Body 10x4.4mm, Pitch 2.54mm)
pins: 1 GATE, 2 DRAIN, 3 SOURCE

## IPP023N04N G
designator Q?
N-Channel OptiMOS 3 Power-Transistor, 40 V VDS, 90 A ID, -55 to 175 degC, PG-TO220-3-1, Tube, Green; Manufacturer: Infineon; PartNumber: IPP023N04N G; Green: TRUE; ID (max): 90 A; IDpuls (max): 400 A; Polarity: N; Ptot (max): 167 W; QG: 90 nC; RDS (on) (max): 2.3 mOhm; Rth: 0.9 K/W; RthJA (max): 62 K/W; VDS (max): 40 V; VGS(th) (max): 4 V; VGS(th) (min): 2 V; DatasheetVersion: Rev. 1.2; PackageVersion: Rev. 05, 08/2007; PackageReference: PG-TO220-3-1; PackageDescription: 3-Pin Plastic (Green) Transistor Single Outline Package, 10.03 x 8.98 mm Body, 2.54 mm Pitch; Supplier 1: Mouser; Supplier Part Number 1: 726-IPP023N04NG; Supplier 2: Newark; Supplier Part Number 2: 60R2727; Supplier 3: Farnell; Supplier Part Number 3: 1775612; Supplier 4: Digi-Key; Supplier Part Number 4: IPP023N04N G-ND; Halogen-free: TRUE; Packing: Tube; RthJC (max): 0.9 K/W; Mounting Technology: Through Hole; ComponentLink1Description: Manufacturer URL; ComponentLink1URL: http://www.infineon.com/; ComponentLink2Description: Datasheet; ComponentLink2URL: http://www.infineon.com/dgdl/IPB023N04N_rev1.2.pdf?folderId=db3a304313b8b5a60113cee8763b02d7&fileId=db3a30432313ff5e01239f000f097121; ComponentLink3Description: Package Specification; ComponentLink3URL: http://www.infineon.com/dgdl/IPP028N08N3_Rev1%5B1%5D.0.pdf?folderId=db3a304313b8b5a60113cee8763b02d7&fileId=db3a30432313ff5e0123a3c08e7326b5
footprint INF-PG-TO220-3-1_A_V (FM, 3-Leads, Body 10.03x8.98mm, Pitch 2.54mm)
pins: 1 GATE, 2 DRAIN, 3 SOURCE

## IPP023N10N5
designator Q?
N-Channel OptiMOS(TM) 5 Power-Transistor, 100 V VDS, 120 A ID, PG-TO220-3, Tube, Green; Manufacturer: Infineon; PartNumber: IPP023N10N5; Green: TRUE; ID (max): 120 A; IDpuls (max): 480 A; Polarity: N; Ptot (max): 375 W; QG: 168 nC; RDS (on) (max): 2.3 mOhm; RthJA (max): 62 K/W; RthJC (max): 0.4 K/W; VDS (max): 100 V; VGS(th) (max): 3.8 V; VGS(th) (min): 2.2 V; DatasheetVersion: Rev. 2.1; PackageVersion: Rev. 05, 08/2007; PackageReference: PG-TO220-3-1_A; PackageDescription: 3-Pin Plastic (Green) Transistor Single Outline Package, 10.03 x 8.98 mm Body, 2.54 mm Pitch; Supplier 1: Mouser; Supplier Part Number 1: N/A; Halogen-free: TRUE; Mounting: THT; Packing: Tube; Technology: OptiMOS(TM); Mounting Technology: Through Hole; ComponentLink1Description: Manufacturer URL; ComponentLink1URL: http://www.infineon.com/; ComponentLink2Description: Datasheet; ComponentLink2URL: http://www.infineon.com/dgdl/IPP023N10N5_2_1.pdf?folderId=db3a3043132679fb0113346bdc4505a3&fileId=5546d461454603990145d5a675f86494; ComponentLink3Description: Package Specification; ComponentLink3URL: http://www.infineon.com/dgdl/IKP30N65H5_2_1.pdf?folderId=db3a3043156fd5730115f56849b61941&fileId=5546d461464245d30146a51a2ca36d28
footprint INF-PG-TO220-3-1_A_V (FM, 3-Leads, Body 10.03x8.98mm, Pitch 2.54mm)
pins: 1 GATE, 2 DRAIN, 3 SOURCE

## IPP023NE7N3 G
designator Q?
N-Channel OptiMOS 3 Power-Transistor, 75 V VDS, 120 A ID, -55 to 175 degC, PG-TO220-3-1, Tube, Green; Manufacturer: Infineon; PartNumber: IPP023NE7N3 G; Green: TRUE; ID (max): 100 A; IDpuls (max): 400 A; Polarity: N; Ptot (max): 300 W; QG: 155 nC; RDS (on) (max): 2.3 mOhm; Rth: 0.5 K/W; RthJA (max): 62 K/W; VDS (max): 75 V; VGS(th) (max): 3.8 V; VGS(th) (min): 2.3 V; DatasheetVersion: Rev. 2.11; PackageVersion: Rev. 05, 08/2007; PackageReference: PG-TO220-3-1; PackageDescription: 3-Pin Plastic (Green) Transistor Single Outline Package, 10.03 x 8.98 mm Body, 2.54 mm Pitch; Supplier 1: Mouser; Supplier Part Number 1: 726-IPP023NE7N3G; Supplier 2: Newark; Supplier Part Number 2: 47W3476; Supplier 3: Farnell; Supplier Part Number 3: 2212851; Supplier 4: Digi-Key; Supplier Part Number 4: IPP023NE7N3 G-ND; Supplier 5: Digi-Key; Supplier Part Number 5: IPP023NE7N3 GCT-ND; Halogen-free: TRUE; Packing: Tube; RthJC (max): 0.5 K/W; Mounting Technology: Through Hole; ComponentLink1Description: Manufacturer URL; ComponentLink1URL: http://www.infineon.com/; ComponentLink2Description: Datasheet; ComponentLink2URL: http://www.infineon.com/dgdl/IPP_I023NE7N3_Rev2+11.pdf?folderId=db3a304313b8b5a60113cee8763b02d7&fileId=db3a304320d39d5901210a9da8c22702; ComponentLink3Description: Package Specification; ComponentLink3URL: http://www.infineon.com/dgdl/IPP028N08N3_Rev1%5B1%5D.0.pdf?folderId=db3a304313b8b5a60113cee8763b02d7&fileId=db3a30432313ff5e0123a3c08e7326b5
footprint INF-PG-TO220-3-1_A_V (FM, 3-Leads, Body 10.03x8.98mm, Pitch 2.54mm)
pins: 1 GATE, 2 DRAIN, 3 SOURCE

## IPP024N06N3 G
designator Q?
N-Channel OptiMOS 3 Power-Transistor, 60 V VDS, 120 A ID, -55 to 175 degC, PG-TO220-3-1, Tube, Green; Manufacturer: Infineon; PartNumber: IPP024N06N3 G; Green: TRUE; ID (max): 120 A; IDpuls (max): 480 A; Polarity: N; Ptot (max): 250 W; QG: 206 nC; RDS (on) (max): 2.4 mOhm; Rth: 0.6 K/W; RthJA (max): 62 K/W; VDS (max): 60 V; VGS(th) (max): 4 V; VGS(th) (min): 2 V; DatasheetVersion: Rev. 2.2; PackageVersion: Rev. 05, 08/2007; PackageReference: PG-TO220-3-1; PackageDescription: 3-Pin Plastic (Green) Transistor Single Outline Package, 10.03 x 8.98 mm Body, 2.54 mm Pitch; Supplier 1: Mouser; Supplier Part Number 1: 726-IPP024N06N3G; Supplier 2: Digi-Key; Supplier Part Number 2: IPP024N06N3 G-ND; Halogen-free: TRUE; Packing: Tube; RthJC (max): 0.6 K/W; Mounting Technology: Through Hole; ComponentLink1Description: Manufacturer URL; ComponentLink1URL: http://www.infineon.com/; ComponentLink2Description: Datasheet; ComponentLink2URL: http://www.infineon.com/dgdl/IPP024N06N3_Rev2.2.pdf?folderId=db3a304313b8b5a60113cee8763b02d7&fileId=db3a30432313ff5e01239f1f52a67151; ComponentLink3Description: Package Specification; ComponentLink3URL: http://www.infineon.com/dgdl/IPP028N08N3_Rev1%5B1%5D.0.pdf?folderId=db3a304313b8b5a60113cee8763b02d7&fileId=db3a30432313ff5e0123a3c08e7326b5
footprint INF-PG-TO220-3-1_A_V (FM, 3-Leads, Body 10.03x8.98mm, Pitch 2.54mm)
pins: 1 GATE, 2 DRAIN, 3 SOURCE

## IPP028N08N3 G
designator Q?
N-Channel OptiMOS 3 Power-Transistor, 80 V VDS, 100 A ID, -55 to 175 degC, PG-TO220-3-1, Tube, Green; Manufacturer: Infineon; PartNumber: IPP028N08N3 G; Green: TRUE; ID (max): 100 A; IDpuls (max): 400 A; Polarity: N; Ptot (max): 300 W; QG: 155 nC; RDS (on) (max): 2.8 mOhm; Rth: 0.5 K/W; RthJA (max): 62 K/W; VDS (max): 80 V; VGS(th) (max): 3.5 V; VGS(th) (min): 2 V; DatasheetVersion: Rev. 1.0; PackageVersion: Rev. 05, 08/2007; PackageReference: PG-TO220-3-1; PackageDescription: 3-Pin Plastic (Green) Transistor Single Outline Package, 10.03 x 8.98 mm Body, 2.54 mm Pitch; Supplier 1: Farnell; Supplier Part Number 1: 1775614; Supplier 2: Digi-Key; Supplier Part Number 2: IPP028N08N3 G-ND; Halogen-free: TRUE; Packing: Tube; RthJC (max): 0.5 K/W; Mounting Technology: Through Hole; ComponentLink1Description: Manufacturer URL; ComponentLink1URL: http://www.infineon.com/; ComponentLink2Description: Datasheet; ComponentLink2URL: http://www.infineon.com/dgdl/IPP028N08N3_Rev1%5B1%5D.pdf?folderId=db3a304313b8b5a60113cee8763b02d7&fileId=db3a30432313ff5e0123a3c08e7326b5; ComponentLink3Description: Package Specification; ComponentLink3URL: http://www.infineon.com/dgdl/IPP028N08N3_Rev1%5B1%5D.0.pdf?folderId=db3a304313b8b5a60113cee8763b02d7&fileId=db3a30432313ff5e0123a3c08e7326b5
footprint INF-PG-TO220-3-1_A_V (FM, 3-Leads, Body 10.03x8.98mm, Pitch 2.54mm)
pins: 1 GATE, 2 DRAIN, 3 SOURCE

## IPP029N06N
designator Q?
N-Channel OptiMOS Power-Transistor, 60 V VDS, 100 A ID, -55 to 175 degC, PG-TO220-3-1, Tube, Green; Manufacturer: Infineon; PartNumber: IPP029N06N; Green: TRUE; ID (max): 100 A; IDpuls (max): 400 A; Polarity: N; Ptot (max): 136 W; QG: 56 nC; RDS (on) (max): 2.9 mOhm; Rth: 1.1 K/W; RthJA (max): 62 K/W; VDS (max): 60 V; VGS(th) (max): 3.3 V; VGS(th) (min): 2.1 V; DatasheetVersion: Rev. 2.3; PackageVersion: Rev. 05, 08/2007; PackageReference: PG-TO220-3-1; PackageDescription: 3-Pin Plastic (Green) Transistor Single Outline Package, 10.03 x 8.98 mm Body, 2.54 mm Pitch; Supplier 1: Digi-Key; Supplier Part Number 1: IPP029N06N-ND; Halogen-free: TRUE; Packing: Tube; RthJC (max): 1.1 K/W; Mounting Technology: Through Hole; ComponentLink1Description: Manufacturer URL; ComponentLink1URL: http://www.infineon.com/; ComponentLink2Description: Datasheet; ComponentLink2URL: http://www.infineon.com/dgdl/IPP029N06N_Rev2.3.pdf?folderId=db3a30431ddc9372011ebafa04517f8b&fileId=db3a3043345a30bc013465bff03f62ec; ComponentLink3Description: Package Specification; ComponentLink3URL: http://www.infineon.com/dgdl/IPP028N08N3_Rev1%5B1%5D.0.pdf?folderId=db3a304313b8b5a60113cee8763b02d7&fileId=db3a30432313ff5e0123a3c08e7326b5
footprint INF-PG-TO220-3-1_A_V (FM, 3-Leads, Body 10.03x8.98mm, Pitch 2.54mm)
pins: 1 GATE, 2 DRAIN, 3 SOURCE

## IPP030N10N3 G
designator Q?
N-Channel OptiMOS 3 Power-Transistor, 100 V VDS, 100 A ID, -55 to 175 degC, PG-TO220-3-1, Tube, Green; Manufacturer: Infineon; PartNumber: IPP030N10N3 G; Green: TRUE; ID (max): 100 A; IDpuls (max): 400 A; Polarity: N; Ptot (max): 300 W; QG: 155 nC; RDS (on) (max): 3 mOhm; Rth: 0.5 K/W; RthJA (max): 62 K/W; VDS (max): 100 V; VGS(th) (max): 3.5 V; VGS(th) (min): 2 V; DatasheetVersion: Rev. 2.1; PackageVersion: Rev. 05, 08/2007; PackageReference: PG-TO220-3-1; PackageDescription: 3-Pin Plastic (Green) Transistor Single Outline Package, 10.03 x 8.98 mm Body, 2.54 mm Pitch; Supplier 1: Mouser; Supplier Part Number 1: 726-IPP030N10N3G; Supplier 2: Digi-Key; Supplier Part Number 2: IPP030N10N3 G-ND; Halogen-free: TRUE; Packing: Tube; RthJC (max): 0.5 K/W; Mounting Technology: Through Hole; ComponentLink1Description: Manufacturer URL; ComponentLink1URL: http://www.infineon.com/; ComponentLink2Description: Datasheet; ComponentLink2URL: http://www.infineon.com/dgdl/IPP030N10N3+G_Rev2+1.pdf?folderId=db3a304313b8b5a60113cee8763b02d7&fileId=db3a30431ce5fb52011d1ea18a3a15b5; ComponentLink3Description: Package Specification; ComponentLink3URL: http://www.infineon.com/dgdl/IPP028N08N3_Rev1%5B1%5D.0.pdf?folderId=db3a304313b8b5a60113cee8763b02d7&fileId=db3a30432313ff5e0123a3c08e7326b5
footprint INF-PG-TO220-3-1_A_V (FM, 3-Leads, Body 10.03x8.98mm, Pitch 2.54mm)
pins: 1 GATE, 2 DRAIN, 3 SOURCE

## IPP032N06N3 G
designator Q?
N-Channel OptiMOS 3 Power-Transistor, 60 V VDS, 120 A ID, -55 to 175 degC, PG-TO220-3-1, Tube, Green; Manufacturer: Infineon; PartNumber: IPP032N06N3 G; Green: TRUE; ID (max): 120 A; IDpuls (max): 480 A; Polarity: N; Ptot (max): 188 W; QG: 124 nC; RDS (on) (max): 3.2 mOhm; Rth: 0.8 K/W; RthJA (max): 62 K/W; VDS (max): 60 V; VGS(th) (max): 4 V; VGS(th) (min): 2 V; DatasheetVersion: Rev. 2.2; PackageVersion: Rev. 05, 08/2007; PackageReference: PG-TO220-3-1; PackageDescription: 3-Pin Plastic (Green) Transistor Single Outline Package, 10.03 x 8.98 mm Body, 2.54 mm Pitch; Supplier 1: Digi-Key; Supplier Part Number 1: IPP032N06N3 G-ND; Halogen-free: TRUE; Packing: Tube; RthJC (max): 0.8 K/W; Mounting Technology: Through Hole; ComponentLink1Description: Manufacturer URL; ComponentLink1URL: http://www.infineon.com/; ComponentLink2Description: Datasheet; ComponentLink2URL: http://www.infineon.com/dgdl/IPP032N06N3_Rev2.2.pdf?folderId=db3a304313b8b5a60113cee8763b02d7&fileId=db3a30432313ff5e01239f2567817160; ComponentLink3Description: Package Specification; ComponentLink3URL: http://www.infineon.com/dgdl/IPP028N08N3_Rev1%5B1%5D.0.pdf?folderId=db3a304313b8b5a60113cee8763b02d7&fileId=db3a30432313ff5e0123a3c08e7326b5
footprint INF-PG-TO220-3-1_A_V (FM, 3-Leads, Body 10.03x8.98mm, Pitch 2.54mm)
pins: 1 GATE, 2 DRAIN, 3 SOURCE

## IPP034N03L G
designator Q?
N-Channel OptiMOS 3 Power-Transistor, 30 V VDS, 80 A ID, -55 to 175 degC, PG-TO220-3-1, Tube, Green; Manufacturer: Infineon; PartNumber: IPP034N03L G; Green: TRUE; ID (max): 80 A; IDpuls (max): 400 A; Polarity: N; Ptot (max): 94 W; QG: 25 nC; RDS (on) (max): 3.4 mOhm; RDS (on) (max) (@4.5V): 4.7 mOhm; Rth: 1.6 K/W; RthJA (max): 62 K/W; VDS (max): 30 V; VGS(th) (max): 2.2 V; VGS(th) (min): 1 V; DatasheetVersion: Rev. 2.0; PackageVersion: Rev. 05, 08/2007; PackageReference: PG-TO220-3-1; PackageDescription: 3-Pin Plastic (Green) Transistor Single Outline Package, 10.03 x 8.98 mm Body, 2.54 mm Pitch; Supplier 1: Mouser; Supplier Part Number 1: 726-IPP034N03LG; Supplier 2: Digi-Key; Supplier Part Number 2: IPP034N03LGIN-ND; Halogen-free: TRUE; Packing: Tube; RthJC (max): 1.6 K/W; Mounting Technology: Through Hole; ComponentLink1Description: Manufacturer URL; ComponentLink1URL: http://www.infineon.com/; ComponentLink2Description: Datasheet; ComponentLink2URL: http://www.infineon.com/dgdl/IPP034N03L_rev2.pdf?folderId=db3a304313b8b5a60113cee8763b02d7&fileId=db3a30432313ff5e01239eb446e2708d; ComponentLink3Description: Package Specification; ComponentLink3URL: http://www.infineon.com/dgdl/IPP028N08N3_Rev1%5B1%5D.0.pdf?folderId=db3a304313b8b5a60113cee8763b02d7&fileId=db3a30432313ff5e0123a3c08e7326b5
footprint INF-PG-TO220-3-1_A_V (FM, 3-Leads, Body 10.03x8.98mm, Pitch 2.54mm)
pins: 1 GATE, 2 DRAIN, 3 SOURCE

## IPP034NE7N3 G
designator Q?
N-Channel OptiMOS 3 Power-Transistor, 75 V VDS, 100 A ID, -55 to 175 degC, PG-TO220-3-1, Tube, Green; Manufacturer: Infineon; PartNumber: IPP034NE7N3 G; Green: TRUE; ID (max): 100 A; IDpuls (max): 400 A; Polarity: N; Ptot (max): 214 W; QG: 88 nC; RDS (on) (max): 3.4 mOhm; Rth: 0.7 K/W; RthJA (max): 62 K/W; VDS (max): 75 V; VGS(th) (max): 3.8 V; VGS(th) (min): 2.3 V; DatasheetVersion: Rev. 2.01; PackageVersion: Rev. 05, 08/2007; PackageReference: PG-TO220-3-1; PackageDescription: 3-Pin Plastic (Green) Transistor Single Outline Package, 10.03 x 8.98 mm Body, 2.54 mm Pitch; Supplier 1: Mouser; Supplier Part Number 1: 726-IPP034NE7N3GXK; Supplier 2: Digi-Key; Supplier Part Number 2: IPP034NE7N3 G-ND; Halogen-free: TRUE; Packing: Tube; RthJC (max): 0.7 K/W; Mounting Technology: Through Hole; ComponentLink1Description: Manufacturer URL; ComponentLink1URL: http://www.infineon.com/; ComponentLink2Description: Datasheet; ComponentLink2URL: http://www.infineon.com/dgdl/IPP_I034NE7N3_Rev2+01.pdf?folderId=db3a304313b8b5a60113cee8763b02d7&fileId=db3a304320d39d5901210ab6d74b2720; ComponentLink3Description: Package Specification; ComponentLink3URL: http://www.infineon.com/dgdl/IPP028N08N3_Rev1%5B1%5D.0.pdf?folderId=db3a304313b8b5a60113cee8763b02d7&fileId=db3a30432313ff5e0123a3c08e7326b5
footprint INF-PG-TO220-3-1_A_V (FM, 3-Leads, Body 10.03x8.98mm, Pitch 2.54mm)
pins: 1 GATE, 2 DRAIN, 3 SOURCE

## IPP037N06L3 G
designator Q?
N-Channel OptiMOS 3 Power-Transistor, 60 V VDS, 90 A ID, -55 to 175 degC, PG-TO220-3-1, Tube, Green; Manufacturer: Infineon; PartNumber: IPP037N06L3 G; Green: TRUE; ID (max): 90 A; IDpuls (max): 360 A; Polarity: N; Ptot (max): 167 W; QG: 59 nC; RDS (on) (max): 3.7 mOhm; RDS (on) (max) (@4.5V): 5.7 mOhm; Rth: 0.9 K/W; RthJA (max): 62 K/W; VDS (max): 60 V; VGS(th) (max): 2.2 V; VGS(th) (min): 1.2 V; DatasheetVersion: Rev. 2.7; PackageVersion: Rev. 05, 08/2007; PackageReference: PG-TO220-3-1; PackageDescription: 3-Pin Plastic (Green) Transistor Single Outline Package, 10.03 x 8.98 mm Body, 2.54 mm Pitch; Supplier 1: Mouser; Supplier Part Number 1: 726-IPP037N06L3G; Supplier 2: Digi-Key; Supplier Part Number 2: IPP037N06L3 G-ND; Halogen-free: TRUE; Packing: Tube; RthJC (max): 0.9 K/W; Mounting Technology: Through Hole; ComponentLink1Description: Manufacturer URL; ComponentLink1URL: http://www.infineon.com/; ComponentLink2Description: Datasheet; ComponentLink2URL: http://www.infineon.com/dgdl/IPP037N06L3_Rev2.7.pdf?folderId=db3a30431441fb5d01148ca9f1be0e77&fileId=db3a304327b8975001280241b2ec383b; ComponentLink3Description: Package Specification; ComponentLink3URL: http://www.infineon.com/dgdl/IPP028N08N3_Rev1%5B1%5D.0.pdf?folderId=db3a304313b8b5a60113cee8763b02d7&fileId=db3a30432313ff5e0123a3c08e7326b5
footprint INF-PG-TO220-3-1_A_V (FM, 3-Leads, Body 10.03x8.98mm, Pitch 2.54mm)
pins: 1 GATE, 2 DRAIN, 3 SOURCE

## IPP037N08N3 G
designator Q?
N-Channel OptiMOS 3 Power-Transistor, 80 V VDS, 100 A ID, -55 to 175 degC, PG-TO220-3-1, Tube, Green; Manufacturer: Infineon; PartNumber: IPP037N08N3 G; Green: TRUE; ID (max): 100 A; IDpuls (max): 400 A; Polarity: N; Ptot (max): 214 W; QG: 88 nC; RDS (on) (max): 3.75 mOhm; Rth: 0.7 K/W; RthJA (max): 62 K/W; VDS (max): 80 V; VGS(th) (max): 3.5 V; VGS(th) (min): 2 V; DatasheetVersion: Rev. 2.3; PackageVersion: Rev. 05, 08/2007; PackageReference: PG-TO220-3-1; PackageDescription: 3-Pin Plastic (Green) Transistor Single Outline Package, 10.03 x 8.98 mm Body, 2.54 mm Pitch; Supplier 1: Newark; Supplier Part Number 1: 60R2731; Supplier 2: Farnell; Supplier Part Number 2: 1775617; Supplier 3: Digi-Key; Supplier Part Number 3: IPP037N08N3 G-ND; Halogen-free: TRUE; Packing: Tube; RthJC (max): 0.7 K/W; Mounting Technology: Through Hole; ComponentLink1Description: Manufacturer URL; ComponentLink1URL: http://www.infineon.com/; ComponentLink2Description: Datasheet; ComponentLink2URL: http://www.infineon.com/dgdl/IPP037N08N3_Rev2.3.pdf?folderId=db3a304313b8b5a60113cee8763b02d7&fileId=db3a30431add1d95011ae8426111565b; ComponentLink3Description: Package Specification; ComponentLink3URL: http://www.infineon.com/dgdl/IPP028N08N3_Rev1%5B1%5D.0.pdf?folderId=db3a304313b8b5a60113cee8763b02d7&fileId=db3a30432313ff5e0123a3c08e7326b5
footprint INF-PG-TO220-3-1_A_V (FM, 3-Leads, Body 10.03x8.98mm, Pitch 2.54mm)
pins: 1 GATE, 2 DRAIN, 3 SOURCE